# Altium schematic symbol library RES-1205-TEST.SchLib: 1 symbol
Pins are listed as number, name and electrical type; pins without a type are passive.

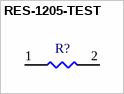
[diagram p0: symbol RES-1205-TEST]

## RES-1205-TEST
designator R?  (value not drawn)
Resistor library test 1205 package resistor
footprint RES1205 (Generic 1205 PCB Footprint)
pins: 1, 2